# Altium footprint library PCB - CAPACITOR - ELECTROLYTIC - CAPAE830X650N.PCBLIB: 1 footprints
Each footprint in its own frame and in the unit in brackets; x right, y up, seen from the top. Pads: shape width x height; smd on the part's side, far side on the other; paste and mask are expansions set on the pad; w line width, h text height; cw(c..) or ccw(c..) is an arc to the next point about the centre after c.
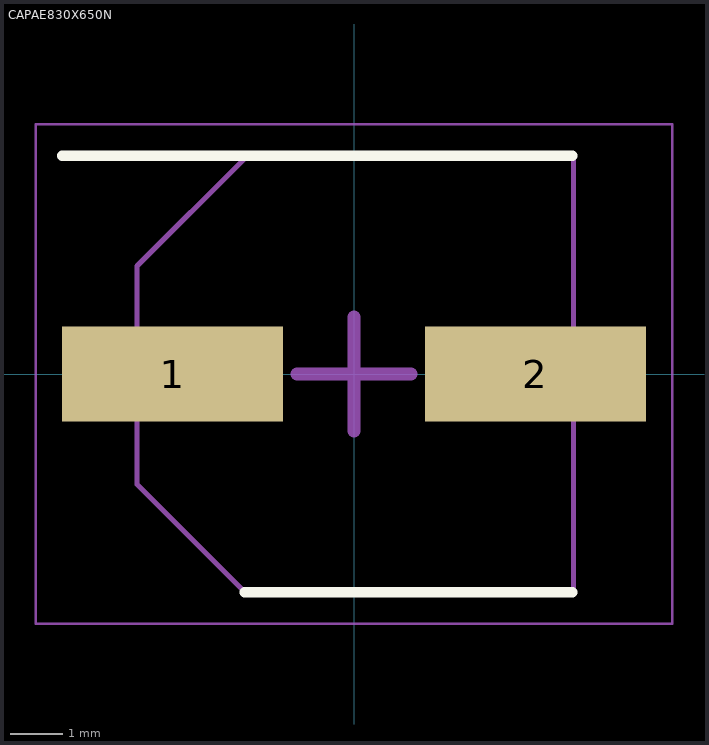
[diagram p0: the footprint, top view; thin cyan lines are the x and y axes]

## CAPAE830X650N [mm]
pads (2):
  rect 4.2x1.8 smd: 1(-3.45,0) 2(3.45,0)
Top Overlay:
  lines w0.2: -5.55,4.15 4.15,4.15 ; -2.075,-4.15 4.15,-4.15
Top Assembly:
  lines w0.1: -4.124,-2.097 -2.049,-4.172 4.176,-4.172 4.176,4.128 -2.049,4.128 -4.124,2.053 -4.124,-2.097
Top Courtyard:
  lines w0.05: -6.05,-4.75 -6.05,4.75 6.05,4.75 6.05,-4.75 -6.05,-4.75
Top Designator:
  text ".Designator" at -3.683,1.519 h1
Top Component Center (Mech11):
  lines w0.254: -1.08,0 1.079,0 ; 0,-1.079 0,1.079
Top Value:
  text ".Comment" at -3.46,-2.48 h1
3D body "EEE-1VA470P.stp": height 6.5, standoff 0, extent -4.75,-4.25 4.75,4.25